# EAGLE library part ULN2803A (library isysbus_ics)
Transistor array: ULN2803 Order numbers (DIL18): - Reichelt: ULN 2803A - CSD-Electronics: 21253 Order numbers (SO18W): - Reichelt: ULN 2803 D - CSD-Electronics: 21254
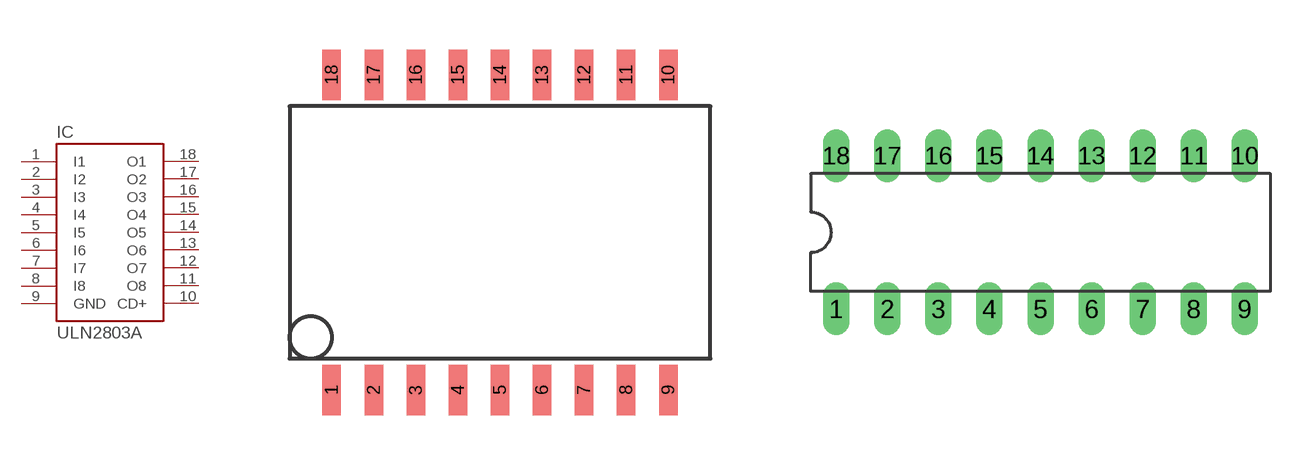
[diagram p1: symbol with the pads of SO18W; footprints SO18W, DIL18]

Designator prefix IC

## ULN2803A-SO18  [SO18W]
1  I1  in
2  I2  in
3  I3  in
4  I4  in
5  I5  in
6  I6  in
7  I7  in
8  I8  in
9  GND  pwr
10  CD+  oc
11  O8  oc
12  O7  oc
13  O6  oc
14  O5  oc
15  O4  oc
16  O3  oc
17  O2  oc
18  O1  oc

## ULN2803A-DIL18  [DIL18]
Pads as for SO18W

## Footprint SO18W (pad centres in mm)
smd 0.559 x 1.524: 1 -5.08,-4.763; 2 -3.81,-4.763; 3 -2.54,-4.763; 4 -1.27,-4.763; 5 0,-4.763; 6 1.27,-4.763; 7 2.54,-4.763; 8 3.81,-4.763; 9 5.08,-4.763; 10 5.08,4.763; 11 3.81,4.763; 12 2.54,4.763; 13 1.27,4.763; 14 0,4.763; 15 -1.27,4.763; 16 -2.54,4.763; 17 -3.81,4.763; 18 -5.08,4.763

## Footprint DIL18 (pad centres in mm)
Dual In Line Package
drill 0.813 long: 1 -10.16,-3.81; 2 -7.62,-3.81; 3 -5.08,-3.81; 4 -2.54,-3.81; 5 0,-3.81; 6 2.54,-3.81; 7 5.08,-3.81; 8 7.62,-3.81; 9 10.16,-3.81; 10 10.16,3.81; 11 7.62,3.81; 12 5.08,3.81; 13 2.54,3.81; 14 0,3.81; 15 -2.54,3.81; 16 -5.08,3.81; 17 -7.62,3.81; 18 -10.16,3.81